# Altium schematic symbol library HDR_3POS_JST_90.SchLib: 2 symbols
Pins are listed as number, name and electrical type; pins without a type are passive.

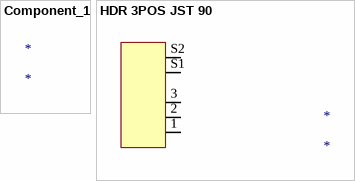
[diagram p0: symbols Component_1 to HDR 3POS JST 90]

## Component_1
designator *

## HDR 3POS JST 90
designator *
pins: 1, 2, 3, S1, S2